# Altium schematic symbol library EthernetConnectors.SchLib: 27 symbols
Pins are listed as number, name and electrical type; pins without a type are passive.

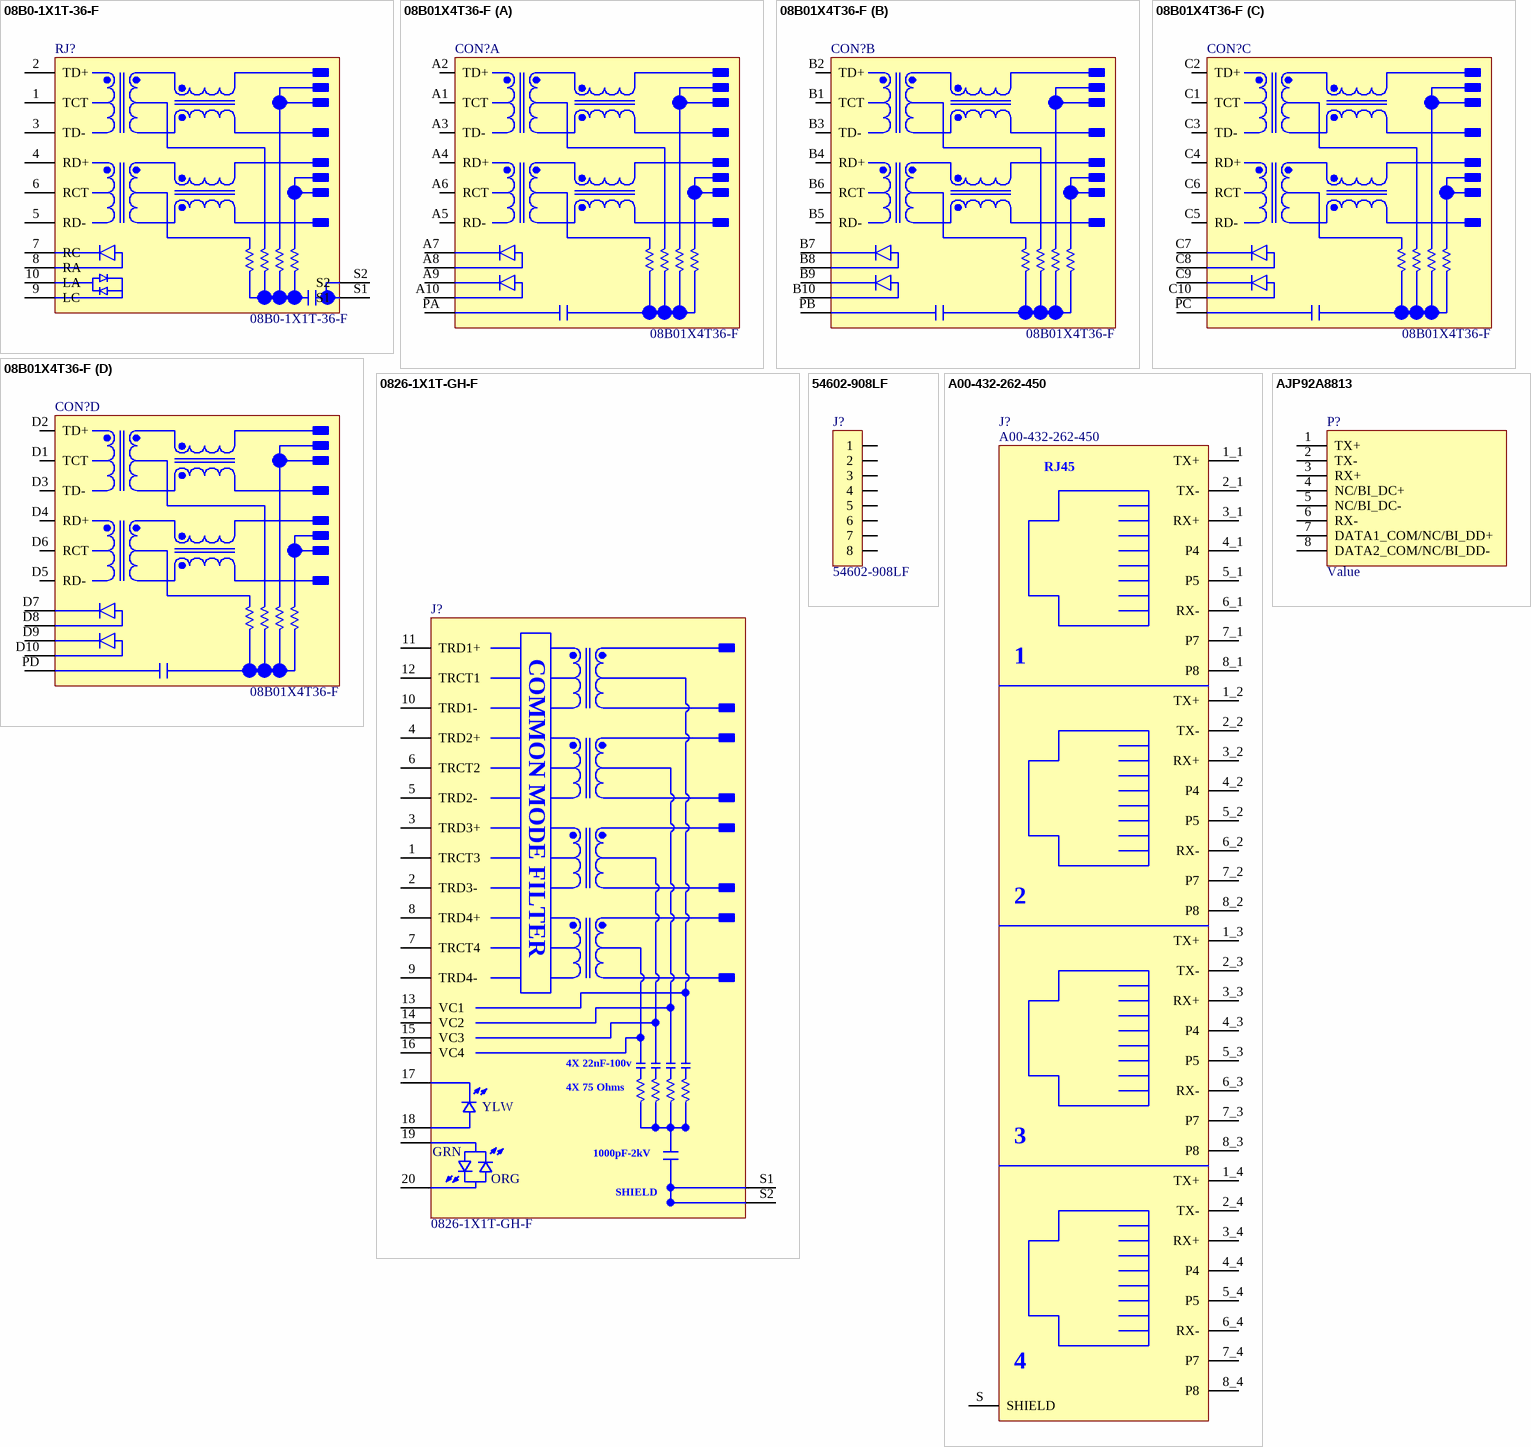
[diagram p0: symbols 08B0-1X1T-36-F to AJP92A8813]

## 08B0-1X1T-36-F
designator RJ?
CONN MAGJACK 1PORT 100 BASE-T; Manuf1: Bel Fuse Inc.; Populated: Yes; Manuf1Partnumber: 08B0-1X1T-36-F; Value: 08B0-1X1T-36-F; ROHS: Yes; LifeCycle: Checked; ClassName: *; Code_JEDEC: *; HelpURL: *; Supplier 1: Digi-Key; Supplier 2: Arrow; Supplier Part Number 1: 507-1446-ND
footprint 08B0-1X1T-36-F (RJ45-ETHERNET-MAGNETICS)
pins: 1 TCT, 2 TD+, 3 TD-, 4 RD+, 5 RD-, 6 RCT, 7 RC, 8 RA, 9 LC, 10 LA, S1, S2

## 08B01X4T36-F
designator CON?
CONN MAGJACK 4PORT 100 BASE-T; Manuf1: Bel Fuse Inc.; Populated: Yes; Value: 08B01X4T36-F; Manuf1Partnumber: 08B01X4T36-F; ROHS: Yes; ClassName: *; Code_JEDEC: *; HelpURL: *; LifeCycle: Checked; Supplier 1: Digi-Key; Supplier Part Number 1: 507-1447-ND
footprint 08B0-1X4T-36-F (TERM_BLOCK_8POS_H)
part A pins: A1 TCT, A2 TD+, A3 TD-, A4 RD+, A5 RD-, A6 RCT, A7 AMA-K, A8 AMA-A, A9 VERDE-K, A10 VERDE-A, PA SHIELD
part B pins: B1 TCT, B2 TD+, B3 TD-, B4 RD+, B5 RD-, B6 RCT, B7 AMA-K, B8 AMA-A, B9 VERDE-K, B10 VERDE-A, PB SHIELD
part C pins: C1 TCT, C2 TD+, C3 TD-, C4 RD+, C5 RD-, C6 RCT, C7 AMA-K, C8 AMA-A, C9 VERDE-K, C10 VERDE-A, PC SHIELD
part D pins: D1 TCT, D2 TD+, D3 TD-, D4 RD+, D5 RD-, D6 RCT, D7 AMA-K, D8 AMA-A, D9 VERDE-K, D10 VERDE-A, PD SHIELD

## 0826-1X1T-GH-F
designator J?
Conn Magnetic jack RCP 8 POS Solder RA Through Hole 20 Terminal Single Port Tray; Manufacturer: Bel; Shielding: Shielded; Connector Type: RJ45; Number of Ports: 1; Direction: Up; Number of Positions Loaded: 8; Gender: Female; Supplier: Digikey; Supplier Part Number: 507-1569-ND; Manufacturer Part Number: 0826-1X1T-GH-F; RoHS: Yes; Category: Modular / Ethernet Connectors; Stock: 2615; Pricing: 1=11,14, 10=8,554, 25=7,728, 40=7,34325, 80=6,81975, 400=5,78545, 800=5,40849, 1200=5,2049 (USD); Mounting Technology: Through Hole; Contact Plating: Gold; Contact Material: Copper Alloy,Copper; Color: Green,Orange,Yellow; Housing Material: Polyamide; Min Operating Temperature: -40°C; Max Operating Temperature: 85°C; Number of Rows: 1; Packaging: Tray; Termination: Solder; Number of Contacts: 8; Orientation: Right Angle; Number of Cores per Jack: 8; Series: MagJack®; Length: 16.31mm; Depth: 32.77mm; Reach SVHC Compliant: Unknown; ComponentLink1URL: https://datasheet.ciiva.com/688/0826-1x1t-gh-f-688165.pdf?src-supplier=Digikey; ComponentLink1Description: https://datasheet.ciiva.com/688/0826-1x1t-gh-f-688165.pdf?src-supplier=Digikey; ComponentLink2URL: https://datasheet.ciiva.com/688/0826-1x1t-gh-f-688165.pdf?src-supplier=Avnet; ComponentLink2Description: https://datasheet.ciiva.com/688/0826-1x1t-gh-f-688165.pdf?src-supplier=Avnet; ComponentLink3URL: https://datasheet.ciiva.com/1478/1385867-1478487.pdf?src-supplier=Newark; ComponentLink3Description: https://datasheet.ciiva.com/1478/1385867-1478487.pdf?src-supplier=Newark; ComponentLink4URL: https://datasheet.ciiva.com/1107/1385867-1107091.pdf?src-supplier=Element14; ComponentLink4Description: https://datasheet.ciiva.com/1107/1385867-1107091.pdf?src-supplier=Element14
footprint BELFUSE_0826-1X1T-GH-F (10/100/1000 Base-T, AutoMDIX, Power over Ethernet+ (PoE+), / 8 Cores)
pins: 1 TRCT3, 2 TRD3-, 3 TRD3+, 4 TRD2+, 5 TRD2-, 6 TRCT2, 7 TRCT4, 8 TRD4+, 9 TRD4-, 10 TRD1-, 11 TRD1+, 12 TRCT1, 13 VC1, 14 VC2, 15 VC3, 16 VC4, 17, 18, 19, 20, S1 SHIELD, S2 SHIELD
text: COMMON MODE FILTER; 4X 22nF-100v; 4X 75 Ohms; YLW; GRN; 1000pF-2kV; ORG

## 54602-908LF
designator J?
CONN MOD JACK 8P8C R/A UNSHLD; Manufacturer: Amphenol FCI; Number of Ports: 1; Number of Contacts: 8; Shielding: Unshielded; Current Rating: 1A; Voltage Rating: 1kV; Contact Resistance: 20mR; Connector Type: RJ45,Jack; Direction: Down; Insulation Resistance: 500MR; Gender: Female; Pitch: 2.54mm; Supplier 1: Digi-Key; Supplier Part Number 1: 609-1046-ND; Manufacturer Part Number: 54602-908LF; Stock 1: 35602; Pricing 1: 1=0.6, 10=0.563, 25=0.5072, 50=0.4508, 100=0.4319, 250=0.3944, 500=0.3756, 1000=0.30987, 2500=0.2817 (USD); Mount: Through Hole; Contact Plating: Nickel,Gold; Contact Material: Bronze,Copper,Copper Alloy; Colour: Black; Housing Colour: Black; Housing Material: Polyester; Min Operating Temperature: -40°C; Max Operating Temperature: 70°C; Termination: Through Hole; Orientation: Right Angle; Packaging: Bulk; Package Quantity: 200; Number of Rows: 1; Number of Positions: 8; Number of Positions Loaded: 8; Length: 15.3mm; Width: 15.3mm; Depth: 17.74mm; Radiation Hardening: No; REACH SVHC: No SVHC; Lead Free: Lead Free; Flammability Rating: UL94 V-0; ComponentLink1URL: https://datasheet.ciiva.com/7629/1637015-7629184.pdf; ComponentLink1Description: https://datasheet.ciiva.com/7629/1637015-7629184.pdf; ComponentLink2URL: https://datasheet.ciiva.com/16945/70236834-16945799.pdf; ComponentLink2Description: https://datasheet.ciiva.com/16945/70236834-16945799.pdf; ComponentLink3URL: https://datasheet.ciiva.com/685/c-bmj-0102-685432.pdf; ComponentLink3Description: https://datasheet.ciiva.com/685/c-bmj-0102-685432.pdf; ComponentLink4URL: https://datasheet.ciiva.com/15170/getdatasheetpartid-177828-15170746.pdf; ComponentLink4Description: https://datasheet.ciiva.com/15170/getdatasheetpartid-177828-15170746.pdf; Value: 54602-908LF
pins: 1, 2, 3, 4, 5, 6, 7, 8

## A00-432-262-450
designator J?
8P8C (RJ45, Ethernet) Cat5 4 Port Shielded Right Angle Jack Modular Connector; Manufacturer: EDAC; Contact Resistance: 30mΩ; Current Rating: 1.5A; Direction: Down; Gender: Female; Insulation Resistance: 500MΩ; Number of Ports: 4; Number of Positions: 32; Voltage Rating: 1.25V; Supplier: DigiKey; Supplier Part Number: 151-1120-ND; Manufacturer Part Number: A00-432-262-450; RoHS: Compliant; Category: Modular / Ethernet Connectors; Stock: 5523; Pricing: 1=4,12, 10=3,504, 25=3,284, 50=3,127, 100=2,9777, 300=2,75553, 600=2,62408, 1200=2,49891, 2700=2,36009 (USD); Contact Gender: Female; Contact Material: Bronze; Contact Plating: Gold; Housing Material: Glass; Lead Free: Lead Free; Lifecycle Status: Production; Max Operating Temperature: 85°C; Min Operating Temperature: -40°C; Mounting Technology: Through Hole; Pins: 32; Number of Rows: 1; REACH SVHC: Yes; Shielding: Shielded; Termination: Solder; ComponentLink1URL: https://datasheet.octopart.com:443/A00-432-262-450-EDAC-datasheet-67049559.pdf?src-supplier=IHS; ComponentLink1Description: https://datasheet.octopart.com:443/A00-432-262-450-EDAC-datasheet-67049559.pdf?src-supplier=IHS; ComponentLink2URL: https://datasheet.octopart.com:443/A00-432-262-450-EDAC-datasheet-144967869.pdf?src-supplier=Electro+Sonic; ComponentLink2Description: https://datasheet.octopart.com:443/A00-432-262-450-EDAC-datasheet-144967869.pdf?src-supplier=Electro+Sonic; ComponentLink3URL: https://datasheet.octopart.com:443/A00-432-262-450-EDAC-datasheet-17724022.pdf?src-supplier=Future+Electronics; ComponentLink3Description: https://datasheet.octopart.com:443/A00-432-262-450-EDAC-datasheet-17724022.pdf?src-supplier=Future+Electronics; ComponentLink4URL: https://datasheet.octopart.com:443/A00-432-262-450-EDAC-datasheet-5743.pdf?src-supplier=Mouser; ComponentLink4Description: https://datasheet.octopart.com:443/A00-432-262-450-EDAC-datasheet-5743.pdf?src-supplier=Mouser
footprint EDAC_A00-432-262-450 (CONN MOD JACK 8P8C R/A SHIELDED)
pins: 1_1 TX+, 1_2 TX+, 1_3 TX+, 1_4 TX+, 2_1 TX-, 2_2 TX-, 2_3 TX-, 2_4 TX-, 3_1 RX+, 3_2 RX+, 3_3 RX+, 3_4 RX+, 4_1 P4, 4_2 P4, 4_3 P4, 4_4 P4, 5_1 P5, 5_2 P5, 5_3 P5, 5_4 P5, 6_1 RX-, 6_2 RX-, 6_3 RX-, 6_4 RX-, 7_1 P7, 7_2 P7, 7_3 P7, 7_4 P7, 8_1 P8, 8_2 P8, 8_3 P8, 8_4 P8, S SHIELD
text: RJ45; 2; 3

## AJP92A8813
designator P?, comment Value
RJ45, AJP92A Series, Plug, 8 Contacts, 8 Positions, 1 Ports; Manuf1: METZ CONNECT; Value: AJP92A8813; Populated: Yes; HelpURL: https://www.metz-connect.com/us/products/ajp92a8813; LifeCycle: Checked; Manuf1Partnumber: AJP92A8813; Manufacturer: METZ CONNECT; Manufacturer Part Number: AJP92A8813; PackageReference: RJ45 Male(Plug); ROHS: Yes; Supplier 1: Newark; Supplier Part Number 1: 84X9704
footprint AJP92A8813
pins: 1 TX+, 2 TX-, 3 RX+, 4 NC/BI_DC+, 5 NC/BI_DC-, 6 RX-, 7 DATA1_COM/NC/BI_DD+, 8 DATA2_COM/NC/BI_DD-

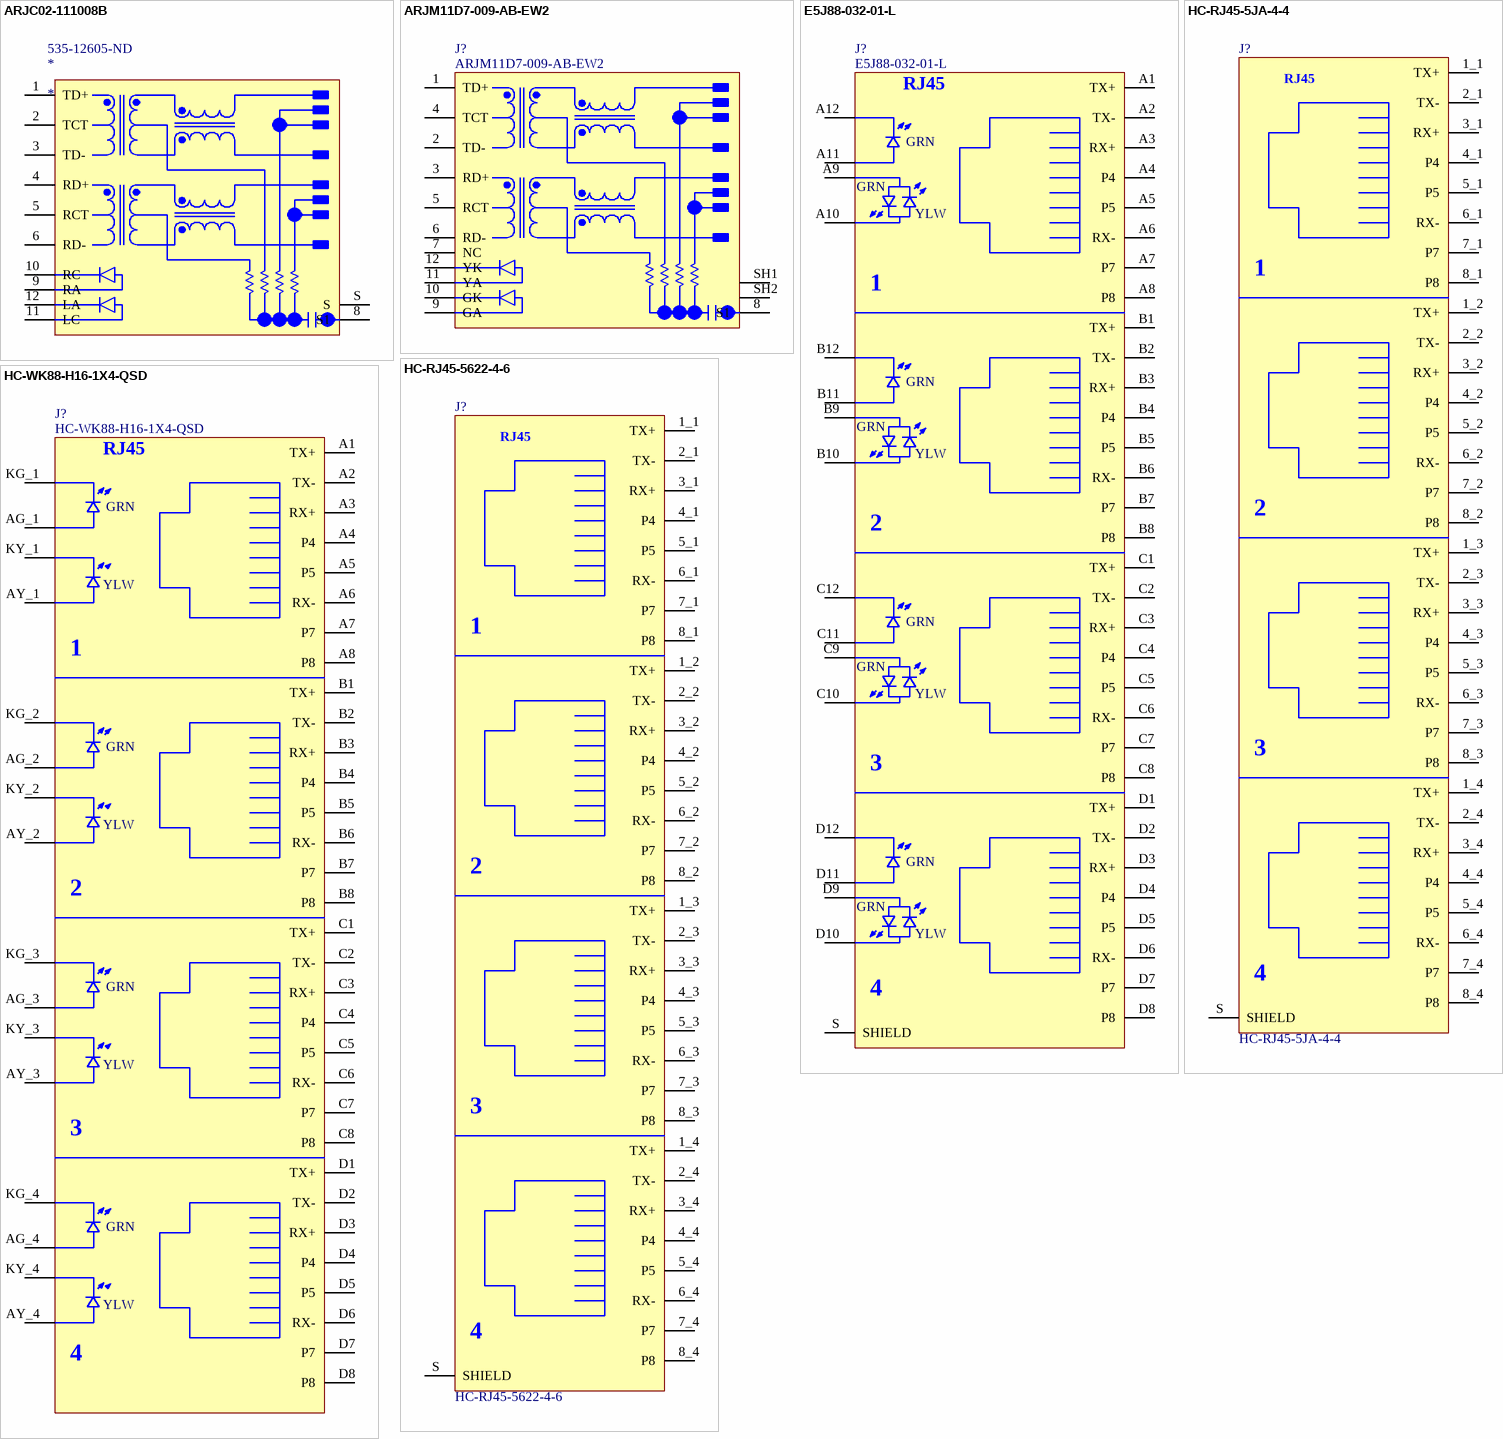
[diagram p1: symbols ARJC02-111008B to HC-WK88-H16-1X4-QSD]

## ARJC02-111008B
designator *  Supplier Part Number 1: 535-12605-ND
CONN MAGJACK 1PORT 100 BASE-TX; Manufacturer: Abracon LLC; Manufacturer Part Number: ARJC02-111008B; Connector Type: RJ45; Number of Ports: 1; LED Color: Yellow - Green; Number of Cores per Jack: 4; Shielding: Shielded, EMI Finger; Tab Direction: Down; Populated: Yes; Supplier 1: Digi-Key; RoHS: Yes; Category: Connectors, Interconnects; Stock 1: 1617; Pricing 1: 1=2.67, 10=2.426, 25=2.2772, 50=2.178, 100=2.079, 250=1.881, 500=1.7325, 1000=1.485, 2500=1.386 (USD); Packaging: Tray; Part Status: Active; Number of Rows: 1; Applications: 10/100 Base-TX, AutoMDIX; Mounting Type: Through Hole; Orientation: 90° Angle (Right); Termination: Solder; Height Above Board: 0.534" (13.55mm); Features: Board Guide; Contact Material: -; Contact Finish: -; Contact Finish Thickness: -; Shield Material: -; Housing Material: -; Operating Temperature: 0°C ~ 70°C; ComponentLink1URL: http://www.abracon.com/Magnetics/lan/ARJC02-111008B.PDF; ComponentLink1Description: http://www.abracon.com/Magnetics/lan/ARJC02-111008B.PDF; LifeCycle: Checked
footprint Abracon ARJC02-111008B
pins: 1 TD+, 2 TCT, 3 TD-, 4 RD+, 5 RCT, 6 RD-, 8 S1, 9 RA, 10 RC, 11 LC, 12 LA, S

## ARJM11D7-009-AB-EW2
designator J?
Modular Connectors / Ethernet Connectors Rj45 Jack W/Mag 1X1 100Base-T; Manufacturer: Abracon; Value: 350µH; Number of Ports: 1; Plating Thickness: 152.4nm; Row Spacing: 2.54mm; Supplier: DigiKey; Supplier Part Number: 535-ARJM11D7-009-AB-EW2-ND; Manufacturer Part Number: ARJM11D7-009-AB-EW2; RoHS: Compliant; Category: Modular / Ethernet Connectors; Stock: 6458; Pricing: 1=3,05, 10=2,592, 25=2,4292, 50=2,3132, 100=2,2026, 250=2,06468, 500=1,96614, 2000=1,78304, 4000=1,72455 (USD); China RoHS: Compliant; Contact Gender: Female; Contact Plating: Gold; Height: 13.8mm; Length: 21.3mm; Lifecycle Status: Production; Max Operating Temperature: 85°C; Min Operating Temperature: -40°C; Mounting Technology: Through Hole; Pins: 8; Number of Rows: 2; REACH SVHC: No; Schedule B: 8536700000|8536700000|8536700000|8536700000|8536700000; Shell Finish: Nickel; Shell Material: Brass; Terminal Pitch: 2.54mm; Width: 15.9mm; ComponentLink1URL: https://datasheet.octopart.com:443/ARJM11D7-009-AB-EW2-Abracon-datasheet-182207866.pdf?src-supplier=IHS; ComponentLink1Description: https://datasheet.octopart.com:443/ARJM11D7-009-AB-EW2-Abracon-datasheet-182207866.pdf?src-supplier=IHS; ComponentLink2URL: https://datasheet.octopart.com:443/ARJM11D7-009-AB-EW2-Abracon-datasheet-97040553.pdf?src-supplier=Farnell; ComponentLink2Description: https://datasheet.octopart.com:443/ARJM11D7-009-AB-EW2-Abracon-datasheet-97040553.pdf?src-supplier=Farnell; ComponentLink3URL: https://datasheet.octopart.com:443/ARJM11D7-009-AB-EW2-Abracon-datasheet-115391515.pdf?src-supplier=Abracon+SCT; ComponentLink3Description: https://datasheet.octopart.com:443/ARJM11D7-009-AB-EW2-Abracon-datasheet-115391515.pdf?src-supplier=Abracon+SCT; ComponentLink4URL: http://sigma.octopart.com:80/conflict_mineral_statement/Abracon-company-27.pdf?src-supplier=Compliance+Statements; ComponentLink4Description: http://sigma.octopart.com:80/conflict_mineral_statement/Abracon-company-27.pdf?src-supplier=Compliance+Statements
footprint ABRACON_ARJM11D7-009-AB-EW2
pins: 1 TD+, 2 TD-, 3 RD+, 4 TCT, 5 RCT, 6 RD-, 7 NC, 8 S1, 9 GA, 10 GK, 11 YA, 12 YK, SH1 SHIELD, SH2 SHIELD

## E5J88-032-01-L
designator J?
Modular Connectors / Ethernet Connectors 8P8C Jack 1x4-Port w/o LEDs 1.5A 125V; Manufacturer: Pulse Electronics; Direction: Down; Number of Ports: 4; Shielding: Shielded; Supplier: DigiKey; Supplier Part Number: 553-2259-ND; Manufacturer Part Number: E5J88-032-01-L; RoHS: Compliant; Category: Modular / Ethernet Connectors; Stock: 2102; Pricing: 1=5,7, 10=4,84, 25=4,536, 50=4,3194, 100=4,1132, 250=3,85572, 500=3,67176, 2240=3,30346 (USD); Color: Green, Yellow; Contact Material: Bronze; Contact Plating: Gold; Housing Material: Nylon; Lifecycle Status: Production; Max Operating Temperature: 85°C; Min Operating Temperature: -40°C; Mounting Technology: Through Hole; Number of Rows: 1; REACH SVHC: Yes; Termination: Solder; ComponentLink1URL: https://datasheet.octopart.com:443/E5J88-032-01-L-Pulse-datasheet-137324591.pdf?src-supplier=ODG+(Origin+Data+Global); ComponentLink1Description: https://datasheet.octopart.com:443/E5J88-032-01-L-Pulse-datasheet-137324591.pdf?src-supplier=ODG+(Origin+Data+Global)
footprint PULSE_E5J88-032-01-L
pins: A1 TX+, A2 TX-, A3 RX+, A4 P4, A5 P5, A6 RX-, A7 P7, A8 P8, A9, A10, A11, A12, B1 TX+, B2 TX-, B3 RX+, B4 P4, B5 P5, B6 RX-, B7 P7, B8 P8, B9, B10, B11, B12, C1 TX+, C2 TX-, C3 RX+, C4 P4, C5 P5, C6 RX-, C7 P7, C8 P8, C9, C10, C11, C12, D1 TX+, D2 TX-, D3 RX+, D4 P4, D5 P5, D6 RX-, D7 P7, D8 P8, D9, D10, D11, D12, S SHIELD
text: RJ45; GRN; YLW; 2; 3

## HC-RJ45-5JA-4-4
designator J?
CONN MOD JACK RJ45 TH R/A SHIELDED; Manufacturer: HCTL; Manufacturer Part Number: HC-RJ45-5JA-4-4; LCSC: C3010541; ComponentLink1Description: LCSC Link; ComponentLink1URL: https://www.lcsc.com/product-detail/C3010541.html
footprint HCTL_HC-RJ45-5JA-4-4
pins: 1_1 TX+, 1_2 TX+, 1_3 TX+, 1_4 TX+, 2_1 TX-, 2_2 TX-, 2_3 TX-, 2_4 TX-, 3_1 RX+, 3_2 RX+, 3_3 RX+, 3_4 RX+, 4_1 P4, 4_2 P4, 4_3 P4, 4_4 P4, 5_1 P5, 5_2 P5, 5_3 P5, 5_4 P5, 6_1 RX-, 6_2 RX-, 6_3 RX-, 6_4 RX-, 7_1 P7, 7_2 P7, 7_3 P7, 7_4 P7, 8_1 P8, 8_2 P8, 8_3 P8, 8_4 P8, S SHIELD
text: RJ45; 1; 2; 3; 4

## HC-RJ45-5622-4-6
designator J?
CONN MOD JACK RJ45 TH R/A UNSHLD; Manufacturer: HCTL; Manufacturer Part Number: HC-RJ45-5622-4-6; LCSC: C3010554; ComponentLink1Description: LCSC Link; ComponentLink1URL: https://www.lcsc.com/product-detail/C3010554.html
pins: 1_1 TX+, 1_2 TX+, 1_3 TX+, 1_4 TX+, 2_1 TX-, 2_2 TX-, 2_3 TX-, 2_4 TX-, 3_1 RX+, 3_2 RX+, 3_3 RX+, 3_4 RX+, 4_1 P4, 4_2 P4, 4_3 P4, 4_4 P4, 5_1 P5, 5_2 P5, 5_3 P5, 5_4 P5, 6_1 RX-, 6_2 RX-, 6_3 RX-, 6_4 RX-, 7_1 P7, 7_2 P7, 7_3 P7, 7_4 P7, 8_1 P8, 8_2 P8, 8_3 P8, 8_4 P8, S SHIELD
text: RJ45; 1; 2; 3; 4

## HC-WK88-H16-1X4-QSD
designator J?
CONN MOD JACK RJ45 TH R/A UNSHLD; Manufacturer: Hong Cheng; Direction: Up; Number of Ports: 4; Shielding: no; Supplier 1: LCSC; Supplier 1 Part Number: C48618191; Manufacturer Part Number: HC-WK88-H16-1X4-QSD; RoHS: Compliant; Category: Modular / Ethernet Connectors; Stock: -; Pricing: -; Color: Green, Yellow; Contact Material: -; Contact Plating: -; Housing Material: Nylon; Lifecycle Status: Production; Max Operating Temperature: 85°C; Min Operating Temperature: -40°C; Mounting Technology: Through Hole; Number of Rows: 1; REACH SVHC: Yes; Termination: Solder; ComponentLink1URL: https://www.lcsc.com/datasheet/C48618191.pdf?spm=wm.sxq.inf.ggs___wm.fly.bg.1.xh&lcsc_vid=R1MPUFNeFAdYBgIERlVYAgIEQgNZVVdeEgJWXlxSQwUxVlNeQ1FaXlJVTlNWVDsOAxUeFF5JWBYZEEoKFBINSQcJGk4%3D; ComponentLink1Description: Datasheet; ComponentLink2Description: LCSC; ComponentLink2URL: https://www.lcsc.com/product-detail/C48618191.html?s_z=n_q_hc-wk88-h16-1x4-qs&spm=wm.fly.bg.1.xh&lcsc_vid=R1MPUFNeFAdYBgIERlVYAgIEQgNZVVdeEgJWXlxSQwUxVlNeQ1FaXlJVTlNWVDsOAxUeFF5JWBYZEEoKFBINSQcJGk4%3D
footprint HC-WK88-H16-1X4-QSD (/ 140726 / J.Jaramillo)
pins: A1 TX+, A2 TX-, A3 RX+, A4 P4, A5 P5, A6 RX-, A7 P7, A8 P8, AG_1, AG_2, AG_3, AG_4, AY_1, AY_2, AY_3, AY_4, B1 TX+, B2 TX-, B3 RX+, B4 P4, B5 P5, B6 RX-, B7 P7, B8 P8, C1 TX+, C2 TX-, C3 RX+, C4 P4, C5 P5, C6 RX-, C7 P7, C8 P8, D1 TX+, D2 TX-, D3 RX+, D4 P4, D5 P5, D6 RX-, D7 P7, D8 P8, KG_1, KG_2, KG_3, KG_4, KY_1, KY_2, KY_3, KY_4
text: RJ45; GRN; YLW; 2; 3

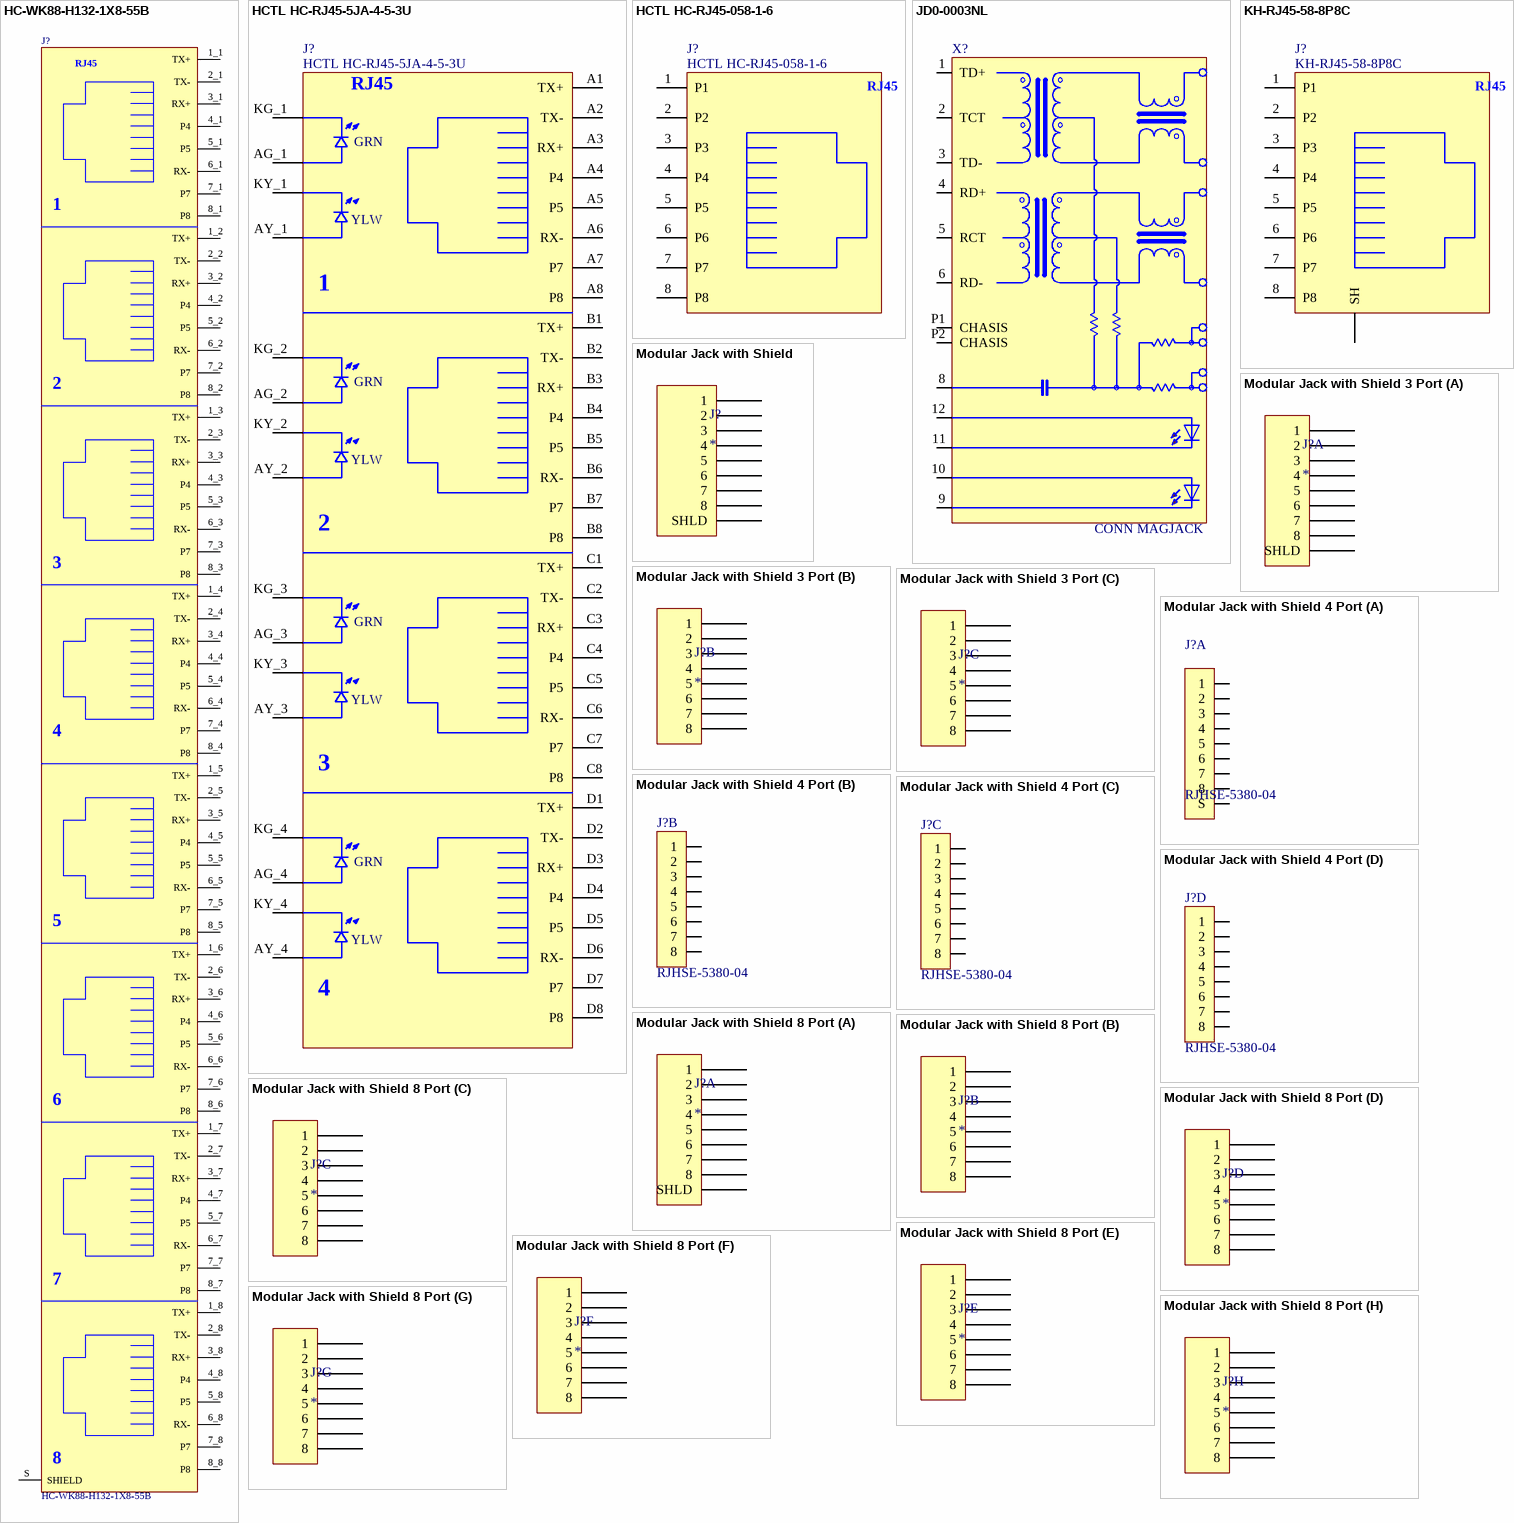
[diagram p2: symbols HC-WK88-H132-1X8-55B to Modular Jack with Shield 8 Port]

## HC-WK88-H132-1X8-55B
designator J?
8P CONN MOD JACK RJ45 TH R/A SHIELDED; ComponentLink1Description: LCSC Link; ComponentLink1URL: https://www.lcsc.com/product-detail/C48618193.html; LCSC: C48618193
footprint HONGCHENG_HC-WK88-H132-1X8-55B (8 PORTS CONN MOD JACK RJ45 TH R/A SHIELDED)
pins: 1_1 TX+, 1_2 TX+, 1_3 TX+, 1_4 TX+, 1_5 TX+, 1_6 TX+, 1_7 TX+, 1_8 TX+, 2_1 TX-, 2_2 TX-, 2_3 TX-, 2_4 TX-, 2_5 TX-, 2_6 TX-, 2_7 TX-, 2_8 TX-, 3_1 RX+, 3_2 RX+, 3_3 RX+, 3_4 RX+, 3_5 RX+, 3_6 RX+, 3_7 RX+, 3_8 RX+, 4_1 P4, 4_2 P4, 4_3 P4, 4_4 P4, 4_5 P4, 4_6 P4, 4_7 P4, 4_8 P4, 5_1 P5, 5_2 P5, 5_3 P5, 5_4 P5, 5_5 P5, 5_6 P5, 5_7 P5, 5_8 P5, 6_1 RX-, 6_2 RX-, 6_3 RX-, 6_4 RX-, 6_5 RX-, 6_6 RX-, 6_7 RX-, 6_8 RX-, 7_1 P7, 7_2 P7, 7_3 P7, 7_4 P7, 7_5 P7, 7_6 P7, 7_7 P7, 7_8 P7, 8_1 P8, 8_2 P8, 8_3 P8, 8_4 P8, 8_5 P8, 8_6 P8, 8_7 P8, 8_8 P8, S SHIELD
text: RJ45; 1; 2; 3; 4; 5; 6; 7; 8

## HCTL HC-RJ45-5JA-4-5-3U
designator J?
CONN MOD JACK RJ45 TH R/A UNSHLD; Direction: Up; Number of Ports: 4; Shielding: no; Supplier: LCSC; Supplier Part Number: C5341199; Manufacturer: HCTL; Manufacturer Part Number: HC-RJ45-5JA-4-5-3U; RoHS: Compliant; Category: Modular / Ethernet Connectors; Stock: -; Pricing: -; Color: Green, Yellow; Contact Material: -; Contact Plating: -; Housing Material: Nylon; Lifecycle Status: Production; Max Operating Temperature: 85°C; Min Operating Temperature: -40°C; Mounting Technology: Through Hole; Number of Rows: 1; REACH SVHC: Yes; Termination: Solder; ComponentLink1URL: https://www.lcsc.com/product-detail/C5341199.html?spm=wm.fly.bg.4.xh&lcsc_vid=RldZXlJfEVNXXwYAFFQKVFJeFlYKVlFWQlFfXl1WRQMxVlNeRlJeVVBWQ1haVDsOAxUeFF5JWBYZEEoKFBINSQcJGk4eFQsCAgIaSgADAwAHC0slQ1lYVlxXTlBADxALGw%3D%3D; ComponentLink1Description: Datasheet; ComponentLink2Description: LCSC; ComponentLink2URL: https://www.lcsc.com/datasheet/C5341199.pdf?spm=wm.sxq.inf.ggs___wm.fly.bg.4.xh&lcsc_vid=RldZXlJfEVNXXwYAFFQKVFJeFlYKVlFWQlFfXl1WRQMxVlNeRlJeVVBWQ1haVDsOAxUeFF5JWBYZEEoKFBINSQcJGk4eFQsCAgIaSgADAwAHC0slQ1lYVlxXTlBADxALGw%3D%3D
footprint HCTL HC-RJ45-5JA-4-5-3U (/ 160626 / J.Jaramillo)
pins: A1 TX+, A2 TX-, A3 RX+, A4 P4, A5 P5, A6 RX-, A7 P7, A8 P8, AG_1, AG_2, AG_3, AG_4, AY_1, AY_2, AY_3, AY_4, B1 TX+, B2 TX-, B3 RX+, B4 P4, B5 P5, B6 RX-, B7 P7, B8 P8, C1 TX+, C2 TX-, C3 RX+, C4 P4, C5 P5, C6 RX-, C7 P7, C8 P8, D1 TX+, D2 TX-, D3 RX+, D4 P4, D5 P5, D6 RX-, D7 P7, D8 P8, KG_1, KG_2, KG_3, KG_4, KY_1, KY_2, KY_3, KY_4
text: RJ45; GRN; YLW; 2; 3

## HCTL HC-RJ45-058-1-6
designator J?
CONN MOD JACK RJ45 TH R/A UNSHLD; Last Date Modify: 090626; Manufacturer Part Number: HCTL HC-RJ45-058-1-6; ComponentLink1Description: LCSC; ComponentLink1URL: https://www.lcsc.com/product-detail/C3000197.html?spm=wm.fly.bg.6.xh&lcsc_vid=RldZXlJfEVNXXwYAFFQKVFJeFlYKVlFWQlFfXl1WRQMxVlNeR1dXU1NQRlZbVzsOAxUeFF5JWBYZEEoKFBINSQcJGk4eFQsCAgIaSgADAwAHC0slRFlYUFJSWQkaCgg%3D; ComponentLink2Description: Datasheet; ComponentLink2URL: https://www.lcsc.com/datasheet/C3000197.pdf?spm=wm.sxq.inf.ggs___wm.fly.bg.6.xh&lcsc_vid=RldZXlJfEVNXXwYAFFQKVFJeFlYKVlFWQlFfXl1WRQMxVlNeR1dXU1NQRlZbVzsOAxUeFF5JWBYZEEoKFBINSQcJGk4eFQsCAgIaSgADAwAHC0slRFlYUFJSWQkaCgg%3D; Manufacturer: HCTL; Supplier: LCSC; Supplier Part Number: C3000197; Package: THT NS; Last Modify by: J.Jaramillo
footprint HCTL HC-RJ45-058-1-6 (/ 090626 / J.Jaramillo)
pins: 1 P1, 2 P2, 3 P3, 4 P4, 5 P5, 6 P6, 7 P7, 8 P8
text: RJ45

## JD0-0003NL
designator X?, comment CONN MAGJACK
Populated: Yes; Supplier 1: Digi-Key; Supplier Part Number 1: 553-2604-ND; RoHS: Yes; ComponentLink1URL: http://productfinder.pulseeng.com/products/datasheets/JD0-0003NL.pdf; ComponentLink1Description: http://productfinder.pulseeng.com/products/datasheets/JD0-0003NL.pdf; LifeCycle: Checked
footprint JD0-003NL
pins: 1 TD+, 2 TCT, 3 TD-, 4 RD+, 5 RCT, 6 RD-, 8, 9 C-L, 10 A-L, 11 C-R, 12 A-R, P1 CHASIS, P2 CHASIS

## KH-RJ45-58-8P8C
designator J?
CONN MOD JACK RJ45 TH R/A SHIELDED; Manufacturer: kinghelm; Last Date Modify: 040826; Manufacturer Part Number: KH-RJ45-58-8P8C; ComponentLink1Description: LCSC; ComponentLink1URL: https://www.lcsc.com/product-detail/C2683360.html?s_z=n_q_C2683360&globalKeyword=C2683360; ComponentLink2Description: Datasheet; ComponentLink2URL: https://www.lcsc.com/product-detail/C2683360.html?s_z=n_q_C2683360&globalKeyword=C2683360; Supplier: LCSC; Supplier Part Number: C2683360; Package: THT NS; Last Modify by: J.Jaramillo
footprint KH-RJ45-58-8P8C (/ 040826 / J.Jaramillo)
pins: 1 P1, 2 P2, 3 P3, 4 P4, 5 P5, 6 P6, 7 P7, 8 P8, SH (power)
text: RJ45

## Modular Jack with Shield
designator J?
Populated: Yes; LifeCycle: Checked; ROHS: Yes
pins: 1, 2, 3, 4, 5, 6, 7, 8, S SHLD

## Modular Jack with Shield 3 Port
designator J?
Populated: Yes; LifeCycle: Checked; ROHS: Yes
part A pins: A1 1, A2 2, A3 3, A4 4, A5 5, A6 6, A7 7, A8 8, S SHLD
part B pins: B1 1, B2 2, B3 3, B4 4, B5 5, B6 6, B7 7, B8 8
part C pins: C1 1, C2 2, C3 3, C4 4, C5 5, C6 6, C7 7, C8 8

## Modular Jack with Shield 4 Port
designator J?, comment RJHSE-5380-04
CONN MOD JACK 8P8C R/A SHIELDED; Manuf1: Amphenol Commercial Products; Populated: Yes; Supplier 1: Digi-Key; Supplier Part Number 1: RJHSE538004-ND; Value: RJHSE-5380-04; LifeCycle: Checked; Manuf1Partnumber: RJHSE-5380-04; ROHS: Yes
footprint AMPHENOL RJHSE-5380-04
part A pins: A1 1, A2 2, A3 3, A4 4, A5 5, A6 6, A7 7, A8 8, S
part B pins: B1 1, B2 2, B3 3, B4 4, B5 5, B6 6, B7 7, B8 8
part C pins: C1 1, C2 2, C3 3, C4 4, C5 5, C6 6, C7 7, C8 8
part D pins: D1 1, D2 2, D3 3, D4 4, D5 5, D6 6, D7 7, D8 8

## Modular Jack with Shield 8 Port
designator J?
Populated: Yes; LifeCycle: Checked; ROHS: Yes
part A pins: A1 1, A2 2, A3 3, A4 4, A5 5, A6 6, A7 7, A8 8, S SHLD
part B pins: B1 1, B2 2, B3 3, B4 4, B5 5, B6 6, B7 7, B8 8
part C pins: C1 1, C2 2, C3 3, C4 4, C5 5, C6 6, C7 7, C8 8
part D pins: D1 1, D2 2, D3 3, D4 4, D5 5, D6 6, D7 7, D8 8
part E pins: E1 1, E2 2, E3 3, E4 4, E5 5, E6 6, E7 7, E8 8
part F pins: F1 1, F2 2, F3 3, F4 4, F5 5, F6 6, F7 7, F8 8
part G pins: G1 1, G2 2, G3 3, G4 4, G5 5, G6 6, G7 7, G8 8
part H pins: H1 1, H2 2, H3 3, H4 4, H5 5, H6 6, H7 7, H8 8

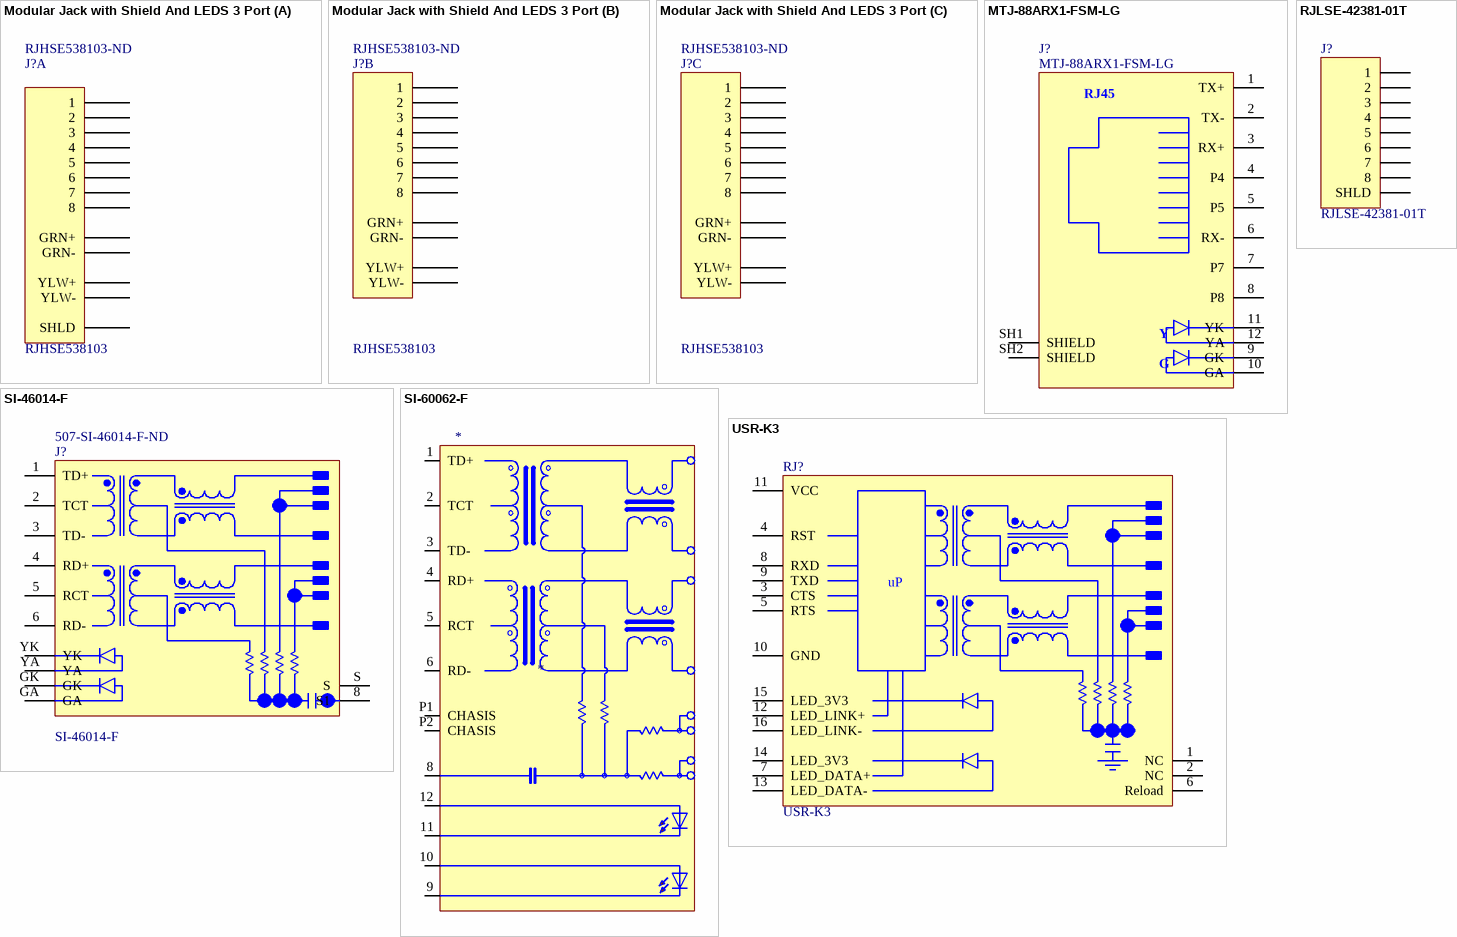
[diagram p3: symbols Modular Jack with Shield And LEDS 3 Port to USR-K3]

## Modular Jack with Shield And LEDS 3 Port
designator J?, comment RJHSE538103  Supplier Part Number 1: RJHSE538103-ND
CONN MOD JACK 8P8C R/A SHIELDED; Manuf1: Amphenol Commercial Products; Populated: Yes; Value: RJHSE538103; Supplier 1: Digi-Key; LifeCycle: Checked; Manuf1Partnumber: RJHSE538103; ROHS: Yes
footprint AMPHENOL RJHSE-538X-03
part A pins: A1 1, A2 2, A3 3, A4 4, A5 5, A6 6, A7 7, A8 8, A9 GRN-, A10 GRN+, A11 YLW-, A12 YLW+, S SHLD
part B pins: B1 1, B2 2, B3 3, B4 4, B5 5, B6 6, B7 7, B8 8, B9 GRN-, B10 GRN+, B11 YLW-, B12 YLW+
part C pins: C1 1, C2 2, C3 3, C4 4, C5 5, C6 6, C7 7, C8 8, C9 GRN-, C10 GRN+, C11 YLW-, C12 YLW+

## MTJ-88ARX1-FSM-LG
designator J?
RJ Connector, 8 Contact(s), Female, Right Angle, Solder Terminal, Locking, Jack; Manufacturer: Adam Tech; Contact Resistance: 20mΩ; Current Rating: 1.5A; Insulation Resistance: 1GΩ; Number of Ports: 1; Row Spacing: 1.78mm; Supplier: DigiKey; Supplier Part Number: 2057-MTJ-88ARX1-FSM-LG-ND; Manufacturer Part Number: MTJ-88ARX1-FSM-LG; RoHS: Compliant; Category: Connectors; Stock: 11898; Pricing: 1=0,67, 10=0,567, 25=0,5312, 50=0,5058, 100=0,4817, 250=0,45148, 500=0,4299, 1000=0,40937, 2500=0,38373 (USD); Contact Gender: Female; Lifecycle Status: Production; Max Operating Temperature: 85°C; Min Operating Temperature: -40°C; Pins: 8; Number of Rows: 2; REACH SVHC: Yes; Shell Finish: Nickel; Shell Material: Brass; Terminal Pitch: 2.04mm; ComponentLink1URL: https://datasheet.octopart.com:443/MTJ-88ARX1-FSM-LG-Adam-Tech-datasheet-175094010.pdf?src-supplier=IHS; ComponentLink1Description: https://datasheet.octopart.com:443/MTJ-88ARX1-FSM-LG-Adam-Tech-datasheet-175094010.pdf?src-supplier=IHS; ComponentLink2URL: http://sigma.octopart.com:80/rohs_statement/Adam-Tech-company-22.pdf?src-supplier=Compliance+Statements; ComponentLink2Description: http://sigma.octopart.com:80/rohs_statement/Adam-Tech-company-22.pdf?src-supplier=Compliance+Statements; ComponentLink3URL: http://sigma.octopart.com:80/reach_statement/Adam-Tech-company-23.pdf?src-supplier=Compliance+Statements; ComponentLink3Description: http://sigma.octopart.com:80/reach_statement/Adam-Tech-company-23.pdf?src-supplier=Compliance+Statements
footprint ADAMTECH_MTJ-88ARX1-FSM-LG
pins: 1 TX+, 2 TX-, 3 RX+, 4 P4, 5 P5, 6 RX-, 7 P7, 8 P8, 9 GK, 10 GA, 11 YK, 12 YA, SH1 SHIELD, SH2 SHIELD
text: RJ45; Y; G

## RJLSE-42381-01T
designator J?
CONN MOD JACK 8P8C R/A SHIELDED; Manufacturer: Amphenol Commercial; Number of Ports: 1; Direction: Down; Number of Positions Loaded: 8; Connector Type: RJ45,Jack; Gender: Male; Pitch: 1.27mm; Supplier 1: Digi-Key; Supplier Part Number 1: RJLSE4238101TDKR-ND; Manufacturer Part Number: RJLSE-42381-01T; Stock 1: 4222; Pricing 1: 1=1.52, 10=1.383, 25=1.298, 50=1.2414 (USD); Mount: Surface Mount; Contact Material: Bronze; Contact Plating: Nickel,Gold; Colour: Black; Housing Colour: Black; Housing Material: Thermoplastic; Min Operating Temperature: -55°C; Max Operating Temperature: 85°C; Package Quantity: 1; Packaging: Tape and Reel; Shielding: Shielded; Number of Rows: 1; Termination: SMD/SMT; Orientation: Right Angle; Number of Contacts: 8; Length: 15.74mm; Depth: 17.53mm; REACH SVHC: Unknown; Flammability Rating: UL94 V-3; ComponentLink1URL: https://datasheet.ciiva.com/685/rjlse-bro-685560.pdf; ComponentLink1Description: https://datasheet.ciiva.com/685/rjlse-bro-685560.pdf; Value: RJLSE-42381-01T
footprint Amphenol RJLSE4238101T (Surface mount modular jack with shield)
pins: 1, 2, 3, 4, 5, 6, 7, 8, S SHLD

## SI-46014-F
designator J?  Supplier Part Number 1: 507-SI-46014-F-ND
Conn RJ-45 Integrated Magnetics F 8 POS 2.54mm Solder ST Thru-Hole 12 Terminal 1 Port; Manufacturer: Bel; Shielding: Shielded; Connector Type: RJ45; Number of Ports: 1; Number of Contacts: 8; Gender: Female; Direction: User Selectable; Number of Cores per Jack: 4; Supplier 1: Digi-Key; Manufacturer Part Number: SI-46014-F; RoHS: Yes; Category: Modular / Ethernet Connectors; Stock 1: 36129; Pricing 1: 1=5,70000, 10=5,17200, 25=4,89880, 40=4,78475, 80=4,55700, 240=3,98738, 480=3,87346, 960=3,30382, 2400=3,07598 (USD); Mount: Through Hole; Color: Green,Yellow; Contact Material: Copper Alloy; Contact Plating: Gold; Housing Material: Thermoplastic; Min Operating Temperature: -40°C; Max Operating Temperature: 85°C; Packaging: Tray; Package Quantity: 80; Number of Rows: 1; Termination: Solder; Orientation: Vertical; Pitch: 2.54mm; RoHS Compliant: Yes; ComponentLink1URL: https://datasheet.ciiva.com/9395/si-46014-f-9395379.pdf?src-supplier=Avnet; ComponentLink1Description: https://datasheet.ciiva.com/9395/si-46014-f-9395379.pdf?src-supplier=Avnet
footprint BELFUSE_SI-4604-F
pins: 1 TD+, 2 TCT, 3 TD-, 4 RD+, 5 RCT, 6 RD-, 8 S1, GA, GK, S, YA, YK

## SI-60062-F
designator *
CONN MAGJACK 1PORT 100 BASE-T; Manufacturer: Bel; Manufacturer Part Number: SI-60062-F; Shielding: Shielded; Connector Type: RJ45,Socket; Number of Ports: 1; Direction: Down; Number of Positions Loaded: 8; Number of Cores per Jack: 4; Gender: Female; Pitch: 2.54mm; Supplier 1: Digi-Key; Stock 1: 9089; Pricing 1: 1=4.35, 10=4.176, 25=3.828, 50=3.654, 100=3.48, 250=3.045, 500=2.958, 1000=2.523, 2500=2.349 (USD); Mount: Through Hole; Case/Package: Metal; Contact Material: Gold,Copper Alloy; Contact Plating: Gold; Colour: Green,Yellow,Silver; Housing Material: Thermoplastic; Min Operating Temperature: 0°C; Max Operating Temperature: 70°C; Packaging: Tray; Package Quantity: 50; Number of Rows: 1; Termination: Solder; Orientation: Right Angle; Number of Contacts: 8; Number of Positions: 8; Length: 17.98mm; Depth: 21.59mm; Width: 17.98mm; REACH SVHC: No SVHC; Lead Free: Lead Free; ComponentLink1URL: https://datasheet.ciiva.com/687/si-60062-f-687803.pdf; ComponentLink1Description: https://datasheet.ciiva.com/687/si-60062-f-687803.pdf; ComponentLink2URL: https://datasheet.ciiva.com/26360/24-0488-26360800.pdf; ComponentLink2Description: https://datasheet.ciiva.com/26360/24-0488-26360800.pdf; ComponentLink3URL: https://datasheet.ciiva.com/11726/0900766b81002b99-11726263.pdf; ComponentLink3Description: https://datasheet.ciiva.com/11726/0900766b81002b99-11726263.pdf; ComponentLink4URL: https://datasheet.ciiva.com/8042/1523782-8042508.pdf; ComponentLink4Description: https://datasheet.ciiva.com/8042/1523782-8042508.pdf; ComponentLink5URL: https://datasheet.ciiva.com/41445/001196185-da-01-en-magjack-1xrj45-mit-leds-41445639.pdf; ComponentLink5Description: https://datasheet.ciiva.com/41445/001196185-da-01-en-magjack-1xrj45-mit-leds-41445639.pdf; Supplier Part Number 1: 380-1106-ND
footprint SI-60062-F
pins: 1 TD+, 2 TCT, 3 TD-, 4 RD+, 5 RCT, 6 RD-, 8, 9 C-L, 10 A-L, 11 C-R, 12 A-R, P1 CHASIS, P2 CHASIS

## USR-K3
designator RJ?
Industrial Super Lan Port Serial TTL UART to Ethernet Module; Manuf1Partnumber: 08B0-1X1T-36-F; Manuf1: Bel Fuse Inc.; Populated: Yes; Value: USR-K3; ROHS: Yes; LifeCycle: Checked; ClassName: *; Code_JEDEC: *; HelpURL: *; Supplier Part Number 1: USR-K3; Supplier 1: http://en.usr.cn
footprint USR-K
pins: 1 NC, 2 NC, 3 CTS, 4 RST, 5 RTS, 6 Reload, 7 LED_DATA+, 8 RXD, 9 TXD, 10 GND, 11 VCC, 12 LED_LINK+, 13 LED_DATA-, 14 LED_3V3, 15 LED_3V3, 16 LED_LINK-
text: uP